# EAGLE library part FDG1024NZ (library PatternAgents-Fairchild)
FDG1024NZ Dual N-Channel PowerTrench® MOSFET 20 V, 1.2 A, 175 mΩ
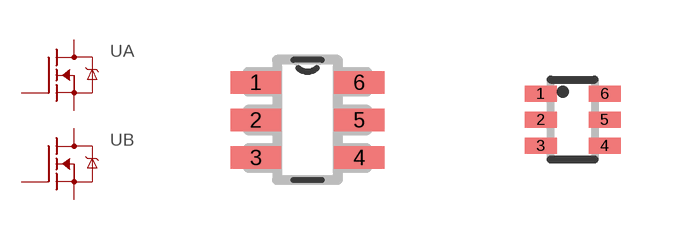
[diagram p1: symbol with the pads of SOT95P280X110-6N; footprints SOT95P280X110-6N, SOT-363]

Designator prefix -; gates B=MOSFET-NCHANNEL A=MOSFET-NCHANNEL

## FDG1024NZ  [SOT95P280X110-6N]
1  A:S  pas
2  A:G  pas
3  B:D  pas
4  B:S  pas
5  B:G  pas
6  A:D  pas

## FDG1024NZ_SC70  [SOT-363]
Pads as for SOT95P280X110-6N

## Footprint SOT95P280X110-6N (pad centres in mm)
smd 1.27 x 0.559: 1 -1.295,0.94; 2 -1.295,0; 3 -1.295,-0.94; 4 1.295,-0.94; 5 1.295,0; 6 1.295,0.94

## Footprint SOT-363 (pad centres in mm)
SOT-363 Small Outline Transistor; 6 leads
smd 0.8 x 0.4: 1 -0.8,0.65; 2 -0.8,0; 3 -0.8,-0.65; 4 0.8,-0.65; 5 0.8,0; 6 0.8,0.65